# Altium footprint library WR-WTB.PcbLib: 259 footprints (part 16 of 17)
Each footprint in its own frame and in the unit in brackets; x right, y up, seen from the top. Pads: shape width x height; smd on the part's side, far side on the other; paste and mask are expansions set on the pad; w line width, h text height; cw(c..) or ccw(c..) is an arc to the next point about the centre after c.
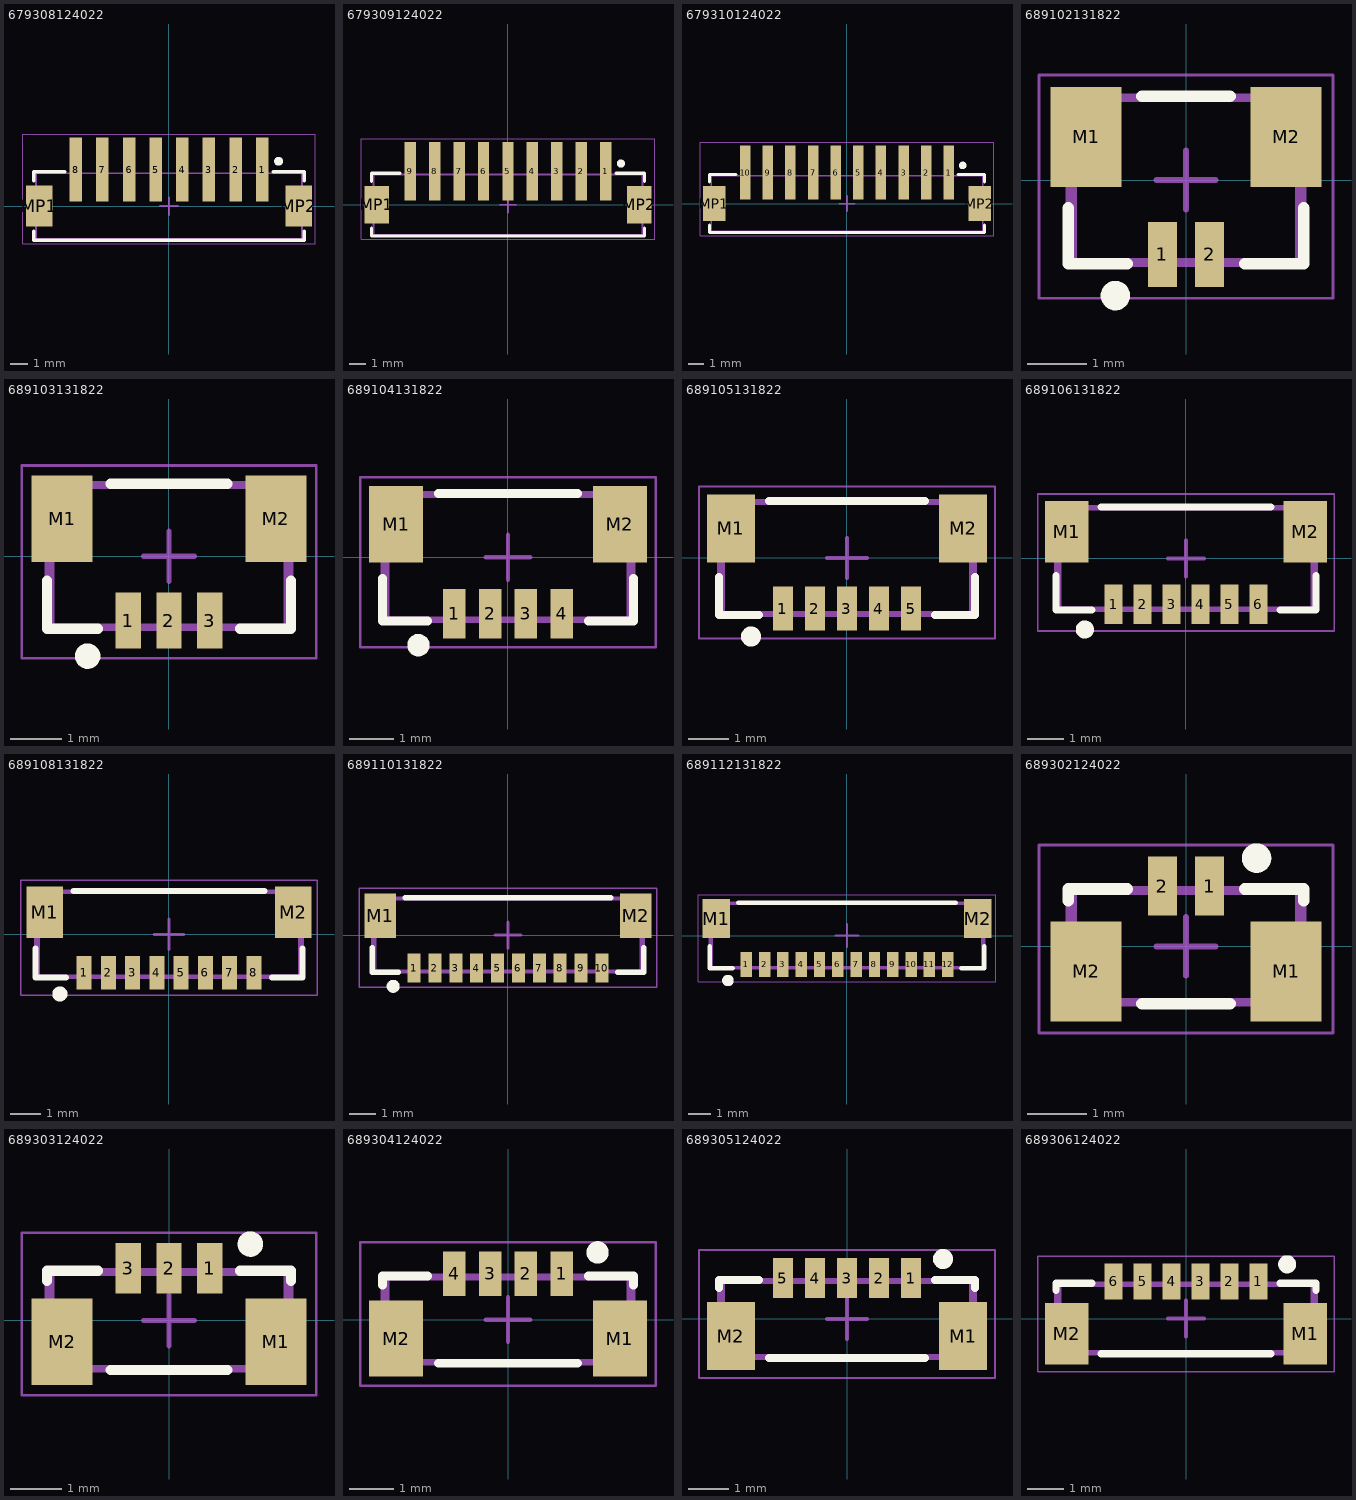
[diagram p15: the footprints below, top view; thin cyan lines are the x and y axes]

## 679308124022 [mm] "1.50mm SMT Male Vertical Shrouded Header, 8p"
height 5
pads (10):
  rect 0.7x3.6 smd: 1(5.25,2.05) 2(3.75,2.05) 3(2.25,2.05) 4(0.75,2.05) 5(-0.75,2.05) 6(-2.25,2.05) 7(-3.75,2.05) 8(-5.25,2.05)
  rect 1.5x2.3 smd: MP1(-7.3,0) MP2(7.3,0)
Top Overlay:
  circle w0.25: c6.175,2.525 r0.125
  lines w0.2: -7.625,-1.425 -7.625,-1.925 7.625,-1.925 7.625,-1.425 ; -7.625,1.425 -7.625,1.925 -5.875,1.925 ; 5.875,1.925 7.625,1.925 7.625,1.425
Top Assembly:
  lines w0.1: -7.5,-1.85 7.5,-1.85 7.5,1.85 -7.5,1.85 -7.5,-1.85
Top Designator:
  text ".Designator" at -3.647,-0.357 h1
Top Courtyard:
  lines w0.05: -8.25,-2.125 8.25,-2.125 8.25,4.05 -8.25,4.05 -8.25,-2.125
Top Component Center:
  lines w0.1: -0.5,0 0.5,0 ; 0,-0.5 0,0.5
3D body "679308124022.stp": height 5.49, standoff -0.01, extent -7.5,-1.85 7.5,3.35

## 679309124022 [mm] "1.50mm SMT Male Vertical Shrouded Header, 9p"
height 5
pads (11):
  rect 0.7x3.6 smd: 1(6,2.05) 2(4.5,2.05) 3(3,2.05) 4(1.5,2.05) 5(0,2.05) 6(-1.5,2.05) 7(-3,2.05) 8(-4.5,2.05) 9(-6,2.05)
  rect 1.5x2.3 smd: MP1(-8.05,0) MP2(8.05,0)
Top Overlay:
  circle w0.25: c6.925,2.525 r0.125
  lines w0.2: -8.375,-1.425 -8.375,-1.925 8.375,-1.925 8.375,-1.425 ; -8.375,1.425 -8.375,1.925 -6.625,1.925 ; 6.625,1.925 8.375,1.925 8.375,1.425
Top Assembly:
  lines w0.1: -8.25,-1.85 8.25,-1.85 8.25,1.85 -8.25,1.85 -8.25,-1.85
Top Designator:
  text ".Designator" at -3.647,-0.357 h1
Top Courtyard:
  lines w0.05: -9,-2.125 9,-2.125 9,4.05 -9,4.05 -9,-2.125
Top Component Center:
  lines w0.1: -0.5,0 0.5,0 ; 0,-0.5 0,0.5
3D body "679309124022.stp": height 5.49, standoff -0.01, extent -8.25,-1.85 8.25,3.35

## 679310124022 [mm] "1.50mm SMT Male Vertical Shrouded Header, 10p"
height 5
pads (12):
  rect 0.7x3.6 smd: 1(6.75,2.05) 2(5.25,2.05) 3(3.75,2.05) 4(2.25,2.05) 5(0.75,2.05) 6(-0.75,2.05) 7(-2.25,2.05) 8(-3.75,2.05) 9(-5.25,2.05) 10(-6.75,2.05)
  rect 1.5x2.3 smd: MP1(-8.8,0) MP2(8.8,0)
Top Overlay:
  circle w0.25: c7.675,2.525 r0.125
  lines w0.2: -9.125,-1.425 -9.125,-1.925 9.125,-1.925 9.125,-1.425 ; -9.125,1.425 -9.125,1.925 -7.375,1.925 ; 7.375,1.925 9.125,1.925 9.125,1.425
Top Assembly:
  lines w0.1: -9,-1.85 9,-1.85 9,1.85 -9,1.85 -9,-1.85
Top Designator:
  text ".Designator" at -3.647,-0.357 h1
Top Courtyard:
  lines w0.05: -9.75,-2.125 -9.75,4.05 9.75,4.05 9.75,-2.125 -9.75,-2.125
Top Component Center:
  lines w0.1: -0.5,0 0.5,0 ; 0,-0.5 0,0.5
3D body "679310124022.stp": height 5.49, standoff -0.01, extent -9,-1.85 9,3.35

## 689102131822 [mm] "SMT Horizontal MaleHeader, pitch 0.8mm, 02p"
height 1.85
pads (4):
  rect 0.5x1.1 smd: 1(-0.4,-1.265) 2(0.4,-1.265)
  rect 1.2x1.7 smd: M1(-1.7,0.735) M2(1.7,0.735)
Top Overlay:
  circle w0.25: c-1.2,-1.965 r0.125
  lines w0.2: -2,-0.475 -2,-1.425 -1,-1.425 ; -0.75,1.425 0.75,1.425 ; 1,-1.425 2,-1.425 2,-0.475
Top Assembly:
  lines w0.1: -2,-1.425 -2,1.425 2,1.425 2,-1.425 -2,-1.425
Top Designator:
  text ".Designator" at -3.647,-0.357 h1
Top 3D Body:
  lines w0.1: -1.9,-1.375 -1.9,1.375 1.9,1.375 1.9,-1.375 -1.9,-1.375
Top Courtyard:
  lines w0.05: -2.5,-2.01 2.5,-2.01 2.5,1.785 -2.5,1.785 -2.5,-2.01
Top Component Center:
  lines w0.1: -0.5,0 0.5,0 ; 0,-0.5 0,0.5
3D body "689102131822_1.stp": height 1.9, standoff 0, extent -1.9,-1.375 1.9,1.375

## 689103131822 [mm] "SMT Horizontal MaleHeader, pitch 0.8mm, 03p"
height 1.85
pads (5):
  rect 0.5x1.1 smd: 1(-0.8,-1.265) 2(0,-1.265) 3(0.8,-1.265)
  rect 1.2x1.7 smd: M1(-2.1,0.735) M2(2.1,0.735)
Top Overlay:
  circle w0.25: c-1.6,-1.965 r0.125
  lines w0.2: -2.4,-0.475 -2.4,-1.425 -1.4,-1.425 ; -1.15,1.425 1.15,1.425 ; 1.4,-1.425 2.4,-1.425 2.4,-0.475
Top Assembly:
  lines w0.1: -2.4,-1.425 -2.4,1.425 2.4,1.425 2.4,-1.425 -2.4,-1.425
Top Designator:
  text ".Designator" at -3.647,-0.357 h1
Top 3D Body:
  lines w0.1: -2.3,-1.375 -2.3,1.375 2.3,1.375 2.3,-1.375 -2.3,-1.375
Top Courtyard:
  lines w0.05: -2.9,-2.01 2.9,-2.01 2.9,1.785 -2.9,1.785 -2.9,-2.01
Top Component Center:
  lines w0.1: -0.5,0 0.5,0 ; 0,-0.5 0,0.5
3D body "689103131822_1.stp": height 1.9, standoff 0, extent -2.3,-1.375 2.3,1.375

## 689104131822 [mm] "SMT Horizontal MaleHeader, pitch 0.8mm, 04p"
height 1.85
pads (6):
  rect 0.5x1.1 smd: 1(-1.2,-1.265) 2(-0.4,-1.265) 3(0.4,-1.265) 4(1.2,-1.265)
  rect 1.2x1.7 smd: M1(-2.5,0.735) M2(2.5,0.735)
Top Overlay:
  circle w0.25: c-2,-1.965 r0.125
  lines w0.2: -2.8,-0.475 -2.8,-1.425 -1.8,-1.425 ; -1.55,1.425 1.55,1.425 ; 1.8,-1.425 2.8,-1.425 2.8,-0.475
Top Assembly:
  lines w0.1: -2.8,-1.425 2.8,-1.425 2.8,1.425 -2.8,1.425 -2.8,-1.425
Top Designator:
  text ".Designator" at -3.647,-0.357 h1
Top 3D Body:
  lines w0.1: -2.7,-1.375 2.7,-1.375 2.7,1.375 -2.7,1.375 -2.7,-1.375
Top Courtyard:
  lines w0.05: -3.3,-2.01 -3.3,1.785 3.3,1.785 3.3,-2.01 -3.3,-2.01
Top Component Center:
  lines w0.1: -0.5,0 0.5,0 ; 0,-0.5 0,0.5
3D body "689104131822_1.stp": height 1.9, standoff 0, extent -2.7,-1.375 2.7,1.375

## 689105131822 [mm] "SMT Horizontal MaleHeader, pitch 0.8mm, 05p"
height 1.85
pads (7):
  rect 0.5x1.1 smd: 1(-1.6,-1.265) 2(-0.8,-1.265) 3(0,-1.265) 4(0.8,-1.265) 5(1.6,-1.265)
  rect 1.2x1.7 smd: M1(-2.9,0.735) M2(2.9,0.735)
Top Overlay:
  circle w0.25: c-2.4,-1.965 r0.125
  lines w0.2: -3.2,-0.475 -3.2,-1.425 -2.2,-1.425 ; -1.95,1.425 1.95,1.425 ; 2.2,-1.425 3.2,-1.425 3.2,-0.475
Top Assembly:
  lines w0.1: -3.2,-1.425 3.2,-1.425 3.2,1.425 -3.2,1.425 -3.2,-1.425
Top Designator:
  text ".Designator" at -3.647,-0.357 h1
Top 3D Body:
  lines w0.1: -3.1,-1.375 3.1,-1.375 3.1,1.375 -3.1,1.375 -3.1,-1.375
Top Courtyard:
  lines w0.05: -3.7,-2.01 -3.7,1.785 3.7,1.785 3.7,-2.01 -3.7,-2.01
Top Component Center:
  lines w0.1: -0.5,0 0.5,0 ; 0,-0.5 0,0.5
3D body "689105131822_1.stp": height 1.9, standoff 0, extent -3.1,-1.375 3.1,1.375

## 689106131822 [mm] "SMT Horizontal MaleHeader, pitch 0.8mm, 06p"
height 1.85
pads (8):
  rect 0.5x1.1 smd: 1(-2,-1.265) 2(-1.2,-1.265) 3(-0.4,-1.265) 4(0.4,-1.265) 5(1.2,-1.265) 6(2,-1.265)
  rect 1.2x1.7 smd: M1(-3.3,0.735) M2(3.3,0.735)
Top Overlay:
  circle w0.25: c-2.8,-1.965 r0.125
  lines w0.2: -3.6,-0.475 -3.6,-1.425 -2.6,-1.425 ; -2.35,1.425 2.35,1.425 ; 2.6,-1.425 3.6,-1.425 3.6,-0.475
Top Assembly:
  lines w0.1: -3.6,-1.425 -3.6,1.425 3.6,1.425 3.6,-1.425 -3.6,-1.425
Top Designator:
  text ".Designator" at -3.647,-0.357 h1
Top 3D Body:
  lines w0.1: -3.5,-1.375 -3.5,1.375 3.5,1.375 3.5,-1.375 -3.5,-1.375
Top Courtyard:
  lines w0.05: -4.1,-2.01 4.1,-2.01 4.1,1.785 -4.1,1.785 -4.1,-2.01
Top Component Center:
  lines w0.1: -0.5,0 0.5,0 ; 0,-0.5 0,0.5
3D body "689106131822_1.stp": height 1.9, standoff 0, extent -3.5,-1.375 3.5,1.375

## 689108131822 [mm] "SMT Horizontal MaleHeader, pitch 0.8mm, 08p"
height 1.85
pads (10):
  rect 0.5x1.1 smd: 1(-2.8,-1.265) 2(-2,-1.265) 3(-1.2,-1.265) 4(-0.4,-1.265) 5(0.4,-1.265) 6(1.2,-1.265) 7(2,-1.265) 8(2.8,-1.265)
  rect 1.2x1.7 smd: M1(-4.1,0.735) M2(4.1,0.735)
Top Overlay:
  circle w0.25: c-3.6,-1.965 r0.125
  lines w0.2: -4.4,-0.475 -4.4,-1.425 -3.4,-1.425 ; -3.15,1.425 3.15,1.425 ; 3.4,-1.425 4.4,-1.425 4.4,-0.475
Top Assembly:
  lines w0.1: -4.4,-1.425 4.4,-1.425 4.4,1.425 -4.4,1.425 -4.4,-1.425
Top Designator:
  text ".Designator" at -3.647,-0.357 h1
Top 3D Body:
  lines w0.1: -4.3,-1.375 4.3,-1.375 4.3,1.375 -4.3,1.375 -4.3,-1.375
Top Courtyard:
  lines w0.05: -4.9,-2.01 -4.9,1.785 4.9,1.785 4.9,-2.01 -4.9,-2.01
Top Component Center:
  lines w0.1: -0.5,0 0.5,0 ; 0,-0.5 0,0.5
3D body "689108131822_1.stp": height 1.9, standoff 0, extent -4.3,-1.375 4.3,1.375

## 689110131822 [mm] "SMT Horizontal MaleHeader, pitch 0.8mm, 10p"
height 1.85
pads (12):
  rect 0.5x1.1 smd: 1(-3.6,-1.265) 2(-2.8,-1.265) 3(-2,-1.265) 4(-1.2,-1.265) 5(-0.4,-1.265) 6(0.4,-1.265) 7(1.2,-1.265) 8(2,-1.265) 9(2.8,-1.265) 10(3.6,-1.265)
  rect 1.2x1.7 smd: M1(-4.9,0.735) M2(4.9,0.735)
Top Overlay:
  circle w0.25: c-4.4,-1.965 r0.125
  lines w0.2: -5.2,-0.475 -5.2,-1.425 -4.2,-1.425 ; -3.95,1.425 3.95,1.425 ; 4.2,-1.425 5.2,-1.425 5.2,-0.475
Top Assembly:
  lines w0.1: -5.2,-1.425 5.2,-1.425 5.2,1.425 -5.2,1.425 -5.2,-1.425
Top Designator:
  text ".Designator" at -3.647,-0.357 h1
Top 3D Body:
  lines w0.1: -5.1,-1.375 5.1,-1.375 5.1,1.375 -5.1,1.375 -5.1,-1.375
Top Courtyard:
  lines w0.05: -5.7,-2.01 -5.7,1.785 5.7,1.785 5.7,-2.01 -5.7,-2.01
Top Component Center:
  lines w0.1: -0.5,0 0.5,0 ; 0,-0.5 0,0.5
3D body "689110131822_1.stp": height 1.9, standoff 0, extent -5.1,-1.375 5.1,1.375

## 689112131822 [mm] "SMT Horizontal MaleHeader, pitch 0.8mm, 12p"
height 1.85
pads (14):
  rect 0.5x1.1 smd: 1(-4.4,-1.265) 2(-3.6,-1.265) 3(-2.8,-1.265) 4(-2,-1.265) 5(-1.2,-1.265) 6(-0.4,-1.265) 7(0.4,-1.265) 8(1.2,-1.265) 9(2,-1.265) 10(2.8,-1.265) 11(3.6,-1.265) 12(4.4,-1.265)
  rect 1.2x1.7 smd: M1(-5.7,0.735) M2(5.7,0.735)
Top Overlay:
  circle w0.25: c-5.2,-1.965 r0.125
  lines w0.2: -6,-0.475 -6,-1.425 -5,-1.425 ; -4.75,1.425 4.75,1.425 ; 5,-1.425 6,-1.425 6,-0.475
Top Assembly:
  lines w0.1: -6,-1.425 6,-1.425 6,1.425 -6,1.425 -6,-1.425
Top Designator:
  text ".Designator" at -3.647,-0.357 h1
Top 3D Body:
  lines w0.1: -5.9,-1.375 5.9,-1.375 5.9,1.375 -5.9,1.375 -5.9,-1.375
Top Courtyard:
  lines w0.05: -6.5,-2.01 -6.5,1.785 6.5,1.785 6.5,-2.01 -6.5,-2.01
Top Component Center:
  lines w0.1: -0.5,0 0.5,0 ; 0,-0.5 0,0.5
3D body "689112131822_1.stp": height 1.9, standoff 0, extent -5.9,-1.375 5.9,1.375

## 689302124022 [mm] "SMT Vertical Male Header, pitch 0.8mm, 02p"
height 2.8
pads (4):
  rect 0.5x1 smd: 1(0.4,1.025) 2(-0.4,1.025)
  rect 1.2x1.7 smd: M1(1.7,-0.425) M2(-1.7,-0.425)
Top Overlay:
  circle w0.25: c1.2,1.5 r0.125
  lines w0.2: -2,0.775 -2,0.975 -1,0.975 ; -0.75,-0.975 0.75,-0.975 ; 1,0.975 2,0.975 2,0.775
Top Assembly:
  lines w0.1: -2,-0.975 -2,0.975 2,0.975 2,-0.975 -2,-0.975
Top Designator:
  text ".Designator" at -3.647,-0.357 h1
Top 3D Body:
  lines w0.1: -1.9,-0.925 -1.9,0.925 1.9,0.925 1.9,-0.925 -1.9,-0.925
Top Courtyard:
  lines w0.05: -2.5,-1.475 2.5,-1.475 2.5,1.725 -2.5,1.725 -2.5,-1.475
Top Component Center:
  lines w0.1: -0.5,0 0.5,0 ; 0,-0.5 0,0.5
3D body "689302124022_1.stp": height 3.16, standoff 0.01, extent -2.4,-0.925 2.4,1.725

## 689303124022 [mm] "SMT Vertical Male Header, pitch 0.8mm, 03p"
height 2.8
pads (5):
  rect 0.5x1 smd: 1(0.8,1.025) 2(0,1.025) 3(-0.8,1.025)
  rect 1.2x1.7 smd: M1(2.1,-0.425) M2(-2.1,-0.425)
Top Overlay:
  circle w0.25: c1.6,1.5 r0.125
  lines w0.2: -2.4,0.775 -2.4,0.975 -1.4,0.975 ; -1.15,-0.975 1.15,-0.975 ; 1.4,0.975 2.4,0.975 2.4,0.775
Top Assembly:
  lines w0.1: -2.4,-0.975 -2.4,0.975 2.4,0.975 2.4,-0.975 -2.4,-0.975
Top Designator:
  text ".Designator" at -3.647,-0.357 h1
Top 3D Body:
  lines w0.1: -2.3,-0.925 2.3,-0.925 2.3,0.925 -2.3,0.925 -2.3,-0.925
Top Courtyard:
  lines w0.05: -2.9,-1.475 2.9,-1.475 2.9,1.725 -2.9,1.725 -2.9,-1.475
Top Component Center:
  lines w0.1: -0.5,0 0.5,0 ; 0,-0.5 0,0.5
3D body "689303124022_1.stp": height 3.2, standoff -0.01, extent -2.4,-0.925 2.4,1.725

## 689304124022 [mm] "SMT Vertical Male Header, pitch 0.8mm, 04p"
height 2.8
pads (6):
  rect 0.5x1 smd: 1(1.2,1.025) 2(0.4,1.025) 3(-0.4,1.025) 4(-1.2,1.025)
  rect 1.2x1.7 smd: M1(2.5,-0.425) M2(-2.5,-0.425)
Top Overlay:
  circle w0.25: c2,1.5 r0.125
  lines w0.2: -2.8,0.775 -2.8,0.975 -1.8,0.975 ; -1.55,-0.975 1.55,-0.975 ; 1.8,0.975 2.8,0.975 2.8,0.775
Top Assembly:
  lines w0.1: -2.8,-0.975 -2.8,0.975 2.8,0.975 2.8,-0.975 -2.8,-0.975
Top Designator:
  text ".Designator" at -3.647,-0.357 h1
Top 3D Body:
  lines w0.1: -2.7,-0.925 2.7,-0.925 2.7,0.925 -2.7,0.925 -2.7,-0.925
Top Courtyard:
  lines w0.05: -3.3,-1.475 3.3,-1.475 3.3,1.725 -3.3,1.725 -3.3,-1.475
Top Component Center:
  lines w0.1: -0.5,0 0.5,0 ; 0,-0.5 0,0.5
3D body "689304124022_1.stp": height 3.2, standoff -0.01, extent -2.7,-0.925 2.7,1.725

## 689305124022 [mm] "SMT Vertical Male Header, pitch 0.8mm, 05p"
height 2.8
pads (7):
  rect 0.5x1 smd: 1(1.6,1.025) 2(0.8,1.025) 3(0,1.025) 4(-0.8,1.025) 5(-1.6,1.025)
  rect 1.2x1.7 smd: M1(2.9,-0.425) M2(-2.9,-0.425)
Top Overlay:
  circle w0.25: c2.4,1.5 r0.125
  lines w0.2: -3.2,0.775 -3.2,0.975 -2.2,0.975 ; -1.95,-0.975 1.95,-0.975 ; 2.2,0.975 3.2,0.975 3.2,0.775
Top Assembly:
  lines w0.1: -3.2,-0.975 -3.2,0.975 3.2,0.975 3.2,-0.975 -3.2,-0.975
Top Designator:
  text ".Designator" at -3.647,-0.357 h1
Top 3D Body:
  lines w0.1: -3.1,-0.925 3.1,-0.925 3.1,0.925 -3.1,0.925 -3.1,-0.925
Top Courtyard:
  lines w0.05: -3.7,-1.475 3.7,-1.475 3.7,1.725 -3.7,1.725 -3.7,-1.475
Top Component Center:
  lines w0.1: -0.5,0 0.5,0 ; 0,-0.5 0,0.5
3D body "689305124022_1.stp": height 3.2, standoff 0, extent -3.1,-0.925 3.1,1.725

## 689306124022 [mm] "SMT Vertical Male Header, pitch 0.8mm, 06p"
height 2.8
pads (8):
  rect 0.5x1 smd: 1(2,1.025) 2(1.2,1.025) 3(0.4,1.025) 4(-0.4,1.025) 5(-1.2,1.025) 6(-2,1.025)
  rect 1.2x1.7 smd: M1(3.3,-0.425) M2(-3.3,-0.425)
Top Overlay:
  circle w0.25: c2.8,1.5 r0.125
  lines w0.2: -3.6,0.775 -3.6,0.975 -2.6,0.975 ; -2.35,-0.975 2.35,-0.975 ; 2.6,0.975 3.6,0.975 3.6,0.775
Top Assembly:
  lines w0.1: -3.6,-0.975 3.6,-0.975 3.6,0.975 -3.6,0.975 -3.6,-0.975
Top Designator:
  text ".Designator" at -3.647,-0.357 h1
Top 3D Body:
  lines w0.1: -3.5,-0.925 -3.5,0.925 3.5,0.925 3.5,-0.925 -3.5,-0.925
Top Courtyard:
  lines w0.05: -4.1,-1.475 -4.1,1.725 4.1,1.725 4.1,-1.475 -4.1,-1.475
Top Component Center:
  lines w0.1: -0.5,0 0.5,0 ; 0,-0.5 0,0.5
3D body "689306124022_1.stp": height 3.2, standoff -0.01, extent -3.5,-0.925 3.5,1.725